# Altium schematic symbol library Wifi-Vista_REV.SchLib: 2 symbols
Pins are listed as number, name and electrical type; pins without a type are passive.

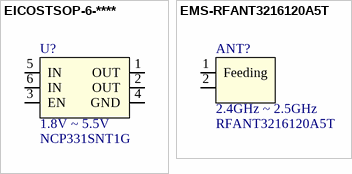
[diagram p0: symbols EICOSTSOP-6-**** to EMS-RFANT3216120A5T]

## EICOSTSOP-6-****
designator U?, comment value NCP331SNT1G  1st Auxiliary Field: 1.8V ~ 5.5V  (hidden comment: IC PWR SWITCH N-CHAN 1:1 6TSOP)
Internal Part Number: EICOSTSOP-6-****; Manufacturer: ON Semiconductor; Vendor Part Number: NCP331SNT1GOSCT-ND; 2nd Auxiliary Field: 2A; 3rd Auxiliary Field: RoHS Compliant; 4th Auxiliary Field: 33mOhm; Component Height (mm): 1.1mm; Temp Co: -40°C ~ 85°C (TA); Vendor Name: Digi-Key; Part Type: IC PWR SWITCH N-CHAN 1:1 6TSOP; Manufacturer Part Number: NCP331SNT1G
footprint TSOP95P280X110-6N (TSOP, 6-Leads, Body 3.00x1.50mm, Pitch 0.95mm, IPC Medium Density)
pins: 1 OUT, 2 OUT (power), 3 EN, 4 GND, 5 IN, 6 IN

## EMS-RFANT3216120A5T
designator ANT?, comment value RFANT3216120A5T  1st Auxiliary Field: 2.4GHz ~ 2.5GHz  (hidden comment: RF ANT 2.4GHZ CHIP SOLDER SMD)
Internal Part Number: EMS-RFANT3216120A5T; Manufacturer: Walsin Technology Corporation; Vendor Part Number: 1292-1000-1-ND; 2nd Auxiliary Field: 2dBi; 3rd Auxiliary Field: RoHS Compliant; Component Height (mm): 1.20mm; Vendor Name: Digi-Key; 4th Auxiliary Field: *; Part Type: RF ANT 2.4GHZ CHIP SOLDER SMD; Temp Co: *; Manufacturer Part Number: RFANT3216120A5T
footprint ANTENNA_ RFANT3216120A5T
pins: 1 Feeding, 2 (power)